# EAGLE library part 610X2621821 (library Wurth_Elektronik_Electromechanic_Board_to_Board_Connectors_rev16a)
WR-PHD 2.54mm Dual SMT Socket Header, 26 Pins=>Code : Con_BTB_SHD_2.54_1_SMT_610x2621821(packageing:x = 0: Tube x = 3: Tape & Reel with Cap; 600 pcs/Reel) <http://katalog.we-online.de/media/images/eican/Con_BTB_SHD_2.54_1_SMT_6100xx21821_pf2.jpg> 6100xx21821 Details see: http://katalog.we-online.de/en/em/610_0xx_218_21 6103xx21821 Details see: http://katalog.we-online.de/en/em/PHD_2_54_SMT_DUAL_SOCKET_HEADER_REEL_6103XX21821 2014 (C) Würth Elektronik
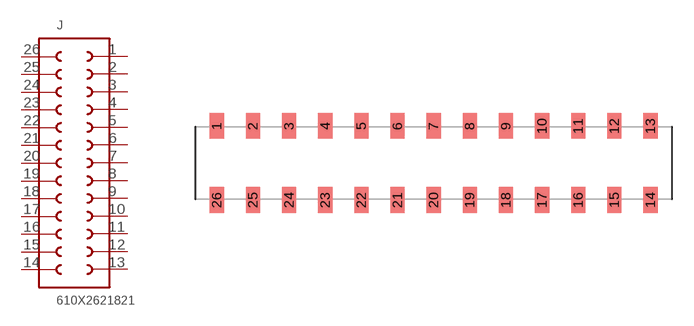
[diagram p222: symbol with the pads of 610X2621821; footprint 610X2621821]

Designator prefix J

## 610X2621821  [610X2621821]
1  1  pas
2  2  pas
3  3  pas
4  4  pas
5  5  pas
6  6  pas
7  7  pas
8  8  pas
9  9  pas
10  10  pas
11  11  pas
12  12  pas
13  13  pas
14  14  pas
15  15  pas
16  16  pas
17  17  pas
18  18  pas
19  19  pas
20  20  pas
21  21  pas
22  22  pas
23  23  pas
24  24  pas
25  25  pas
26  26  pas

## Footprint 610X2621821 (pad centres in mm)
WR-PHD 2.54mm Dual SMT Socket Header, 26 Pins
smd 1 x 1.8: 1 -15.24,2.6; 2 -12.7,2.6; 3 -10.16,2.6; 4 -7.62,2.6; 5 -5.08,2.6; 6 -2.54,2.6; 7 0,2.6; 8 2.54,2.6; 9 5.08,2.6; 10 7.62,2.6; 11 10.16,2.6; 12 12.7,2.6; 13 15.24,2.6; 14 15.24,-2.6; 15 12.7,-2.6; 16 10.16,-2.6; 17 7.62,-2.6; 18 5.08,-2.6; 19 2.54,-2.6; 20 0,-2.6; 21 -2.54,-2.6; 22 -5.08,-2.6; 23 -7.62,-2.6; 24 -10.16,-2.6; 25 -12.7,-2.6; 26 -15.24,-2.6